# Altium footprint library PCB - LEADED - SOT - TI SC-70-5 DCK.PcbLib: 1 footprints
Each footprint in its own frame and in the unit in brackets; x right, y up, seen from the top. Pads: shape width x height; smd on the part's side, far side on the other; paste and mask are expansions set on the pad; w line width, h text height; cw(c..) or ccw(c..) is an arc to the next point about the centre after c.
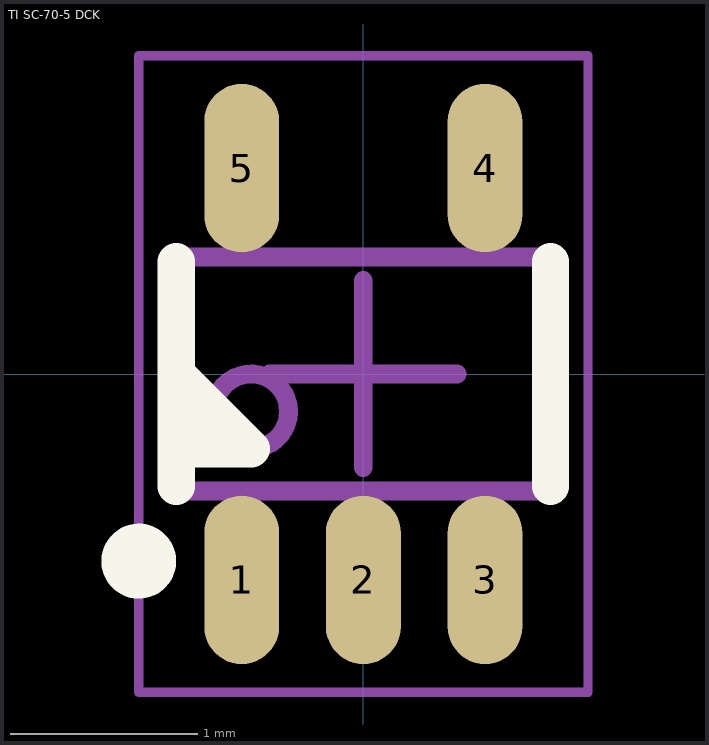
[diagram p0: the footprint, top view; thin cyan lines are the x and y axes]

## TI SC-70-5 DCK [mm] "Temperature Sensor Analog - Local -50°C ~ 150°C 13.6mV, 5 Leads, Body 2.1x2mm, Pitch 0.65mm, Package SOT-353"
height 1.1
pads (5):
  oval 0.4x0.9 smd mask+0.05: 1(-0.65,-1.1) 2(0,-1.1) 3(0.65,-1.1) 4(0.65,1.1) 5(-0.65,1.1)
Top Overlay:
  circle w0.2: c-1.2,-1 r0.1
  region: -1,-0.4 -0.6,-0.4 -1,0
  lines w0.2: -1,-0.6 -1,0.6 ; -1,-0.4 -0.6,-0.4 -1,0 ; 1,-0.6 1,0.6
Mechanical 13:
  circle w0.1: c-0.6,-0.2 r0.2
  lines w0.1: -1,-0.625 -1,0.625 1,0.625 1,-0.625 -1,-0.625
Mechanical 15:
  lines w0.05: -1.2,-1.7 -1.2,1.7 1.2,1.7 1.2,-1.7 -1.2,-1.7
Mechanical 2 (Mech9):
  lines w0.1: -0.5,0 0,0 ; 0,-0.5 0,0 ; 0,0.5 0,0 ; 0.5,0 0,0
3D body "TI - SC-70-5 v3.step": height 1.1, standoff 0, extent -1,-1.05 1,1.05